# Altium footprint library DC接口  电源的.PcbLib: 7 footprints
Each footprint in its own frame and in the unit in brackets; x right, y up, seen from the top. Pads: shape width x height; smd on the part's side, far side on the other; paste and mask are expansions set on the pad; w line width, h text height; cw(c..) or ccw(c..) is an arc to the next point about the centre after c.
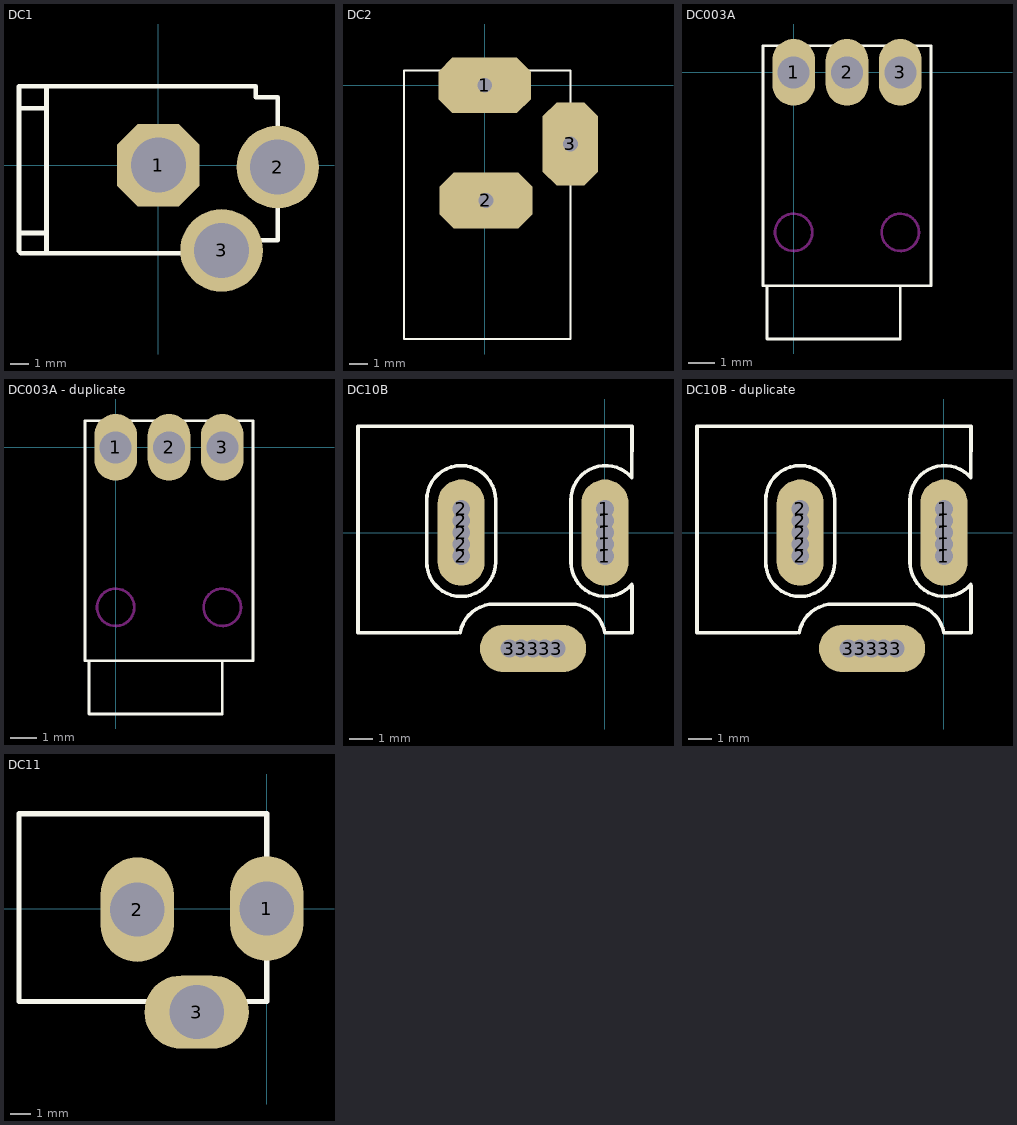
[diagram p0: the footprints below, top view; thin cyan lines are the x and y axes]

## DC1 [mm]
pads (3):
  oct 4.5x4.5 hole 3: 1(0,0)
  round 4.5 hole 3: 2(6.5,-0.1) 3(3.44,-4.648)
Top Overlay:
  lines w0.254: -7.6,-3.7 -6.1,-3.7 ; -7.6,3.1 -6.1,3.1 ; -6.1,-4.8 -6.1,4.3 ; -4.1,-4.8 4.8,-4.8 5.4,-4.8 5.4,-4.1 6.5,-4.1 6.5,3.7 5.3,3.7 5.3,4.3 -3.8,4.3 -7.6,4.3 -7.6,-4.7 -7.5,-4.8 -3.8,-4.8

## DC2 [mm]
pads (3):
  oct 5x3 hole 0.8: 1(0,0) 2(0.07,-6.22)
  oct 3x4.5 hole 0.8: 3(4.63,-3.17)
Top Overlay:
  lines w0.1: -4.36,-13.7 -4.36,0.8 4.64,0.8 4.64,-13.7 -4.36,-13.7
Mechanical 1:
  lines w0.1: -1.36,-0.55 -1.36,0.45 1.64,0.45 1.64,-0.55 -1.36,-0.55 ; -1.16,-6.7 -1.16,-5.7 1.44,-5.7 1.44,-6.7 -1.16,-6.7 ; 4.14,-4.45 4.14,-1.85 5.14,-1.85 5.14,-4.45 4.14,-4.45

## DC003A [mm]
pads (3):
  oval 1.6x2.5 hole 1.2: 1(0,0) 2(2,0) 3(4,0)
Top Overlay:
  lines w0.1: -1,-8 -1,-10 4,-10 4,-8.02 ; -1.15,-8 -1.15,1 5.15,1 5.15,-8 -1.15,-8
Keep-Out Layer:
  circle w0.1: c0,-6 r0.7
  circle w0.1: c4,-6 r0.7

## DC003A - duplicate [mm]
pads (3):
  oval 1.6x2.5 hole 1.2: 1(0,0) 2(2,0) 3(4,0)
Top Overlay:
  lines w0.1: -1,-8 -1,-10 4,-10 4,-8.02 ; -1.15,-8 -1.15,1 5.15,1 5.15,-8 -1.15,-8
Keep-Out Layer:
  circle w0.1: c0,-6 r0.7
  circle w0.1: c4,-6 r0.7

## DC10B [mil]
pads (15):
  round 45 hole 30: 1(0,-40) 1(0,-20) 1(0,20) 1(0,40) 2(-244.09,-40) 2(-244.09,-20) 2(-244.09,20) 2(-244.09,40) 3(-162.05,-196.85) 3(-142.05,-196.85) 3(-102.05,-196.85) 3(-82.05,-196.85)
  oval 80x180 hole 30: 1(0,0) 2(-244.09,0)
  oval 180x80 hole 30: 3(-122.05,-196.85)
Top Overlay:
  lines w6: -250.09,-170 -419.09,-170 -419.09,180 45.91,180 45.74,92.62 ccw(c0.91,55) -57.62,55 -57.62,-50 ccw(c0.91,-50) 45.74,-87.62 ; -245.73,-169.84 cw(c-188.09,-180) -188.09,-121.48 -58.09,-121.48 cw(c-58.09,-180) -0.46,-169.84 ; 0.91,-170 45.91,-170 45.91,-90 ; -185.57,55 ccw(c-244.09,55) -302.62,55 -302.62,-50 ccw(c-244.09,-50) -185.57,-50 -185.57,55 ; -185.57,55 -185.57,55

## DC10B - duplicate [mil]
pads (15):
  round 45 hole 30: 1(0,-40) 1(0,-20) 1(0,20) 1(0,40) 2(-244.09,-40) 2(-244.09,-20) 2(-244.09,20) 2(-244.09,40) 3(-162.05,-196.85) 3(-142.05,-196.85) 3(-102.05,-196.85) 3(-82.05,-196.85)
  oval 80x180 hole 30: 1(0,0) 2(-244.09,0)
  oval 180x80 hole 30: 3(-122.05,-196.85)
Top Overlay:
  lines w6: -250.09,-170 -419.09,-170 -419.09,180 45.91,180 45.74,92.62 ccw(c0.91,55) -57.62,55 -57.62,-50 ccw(c0.91,-50) 45.74,-87.62 ; -245.73,-169.84 cw(c-188.09,-180) -188.09,-121.48 -58.09,-121.48 cw(c-58.09,-180) -0.46,-169.84 ; 0.91,-170 45.91,-170 45.91,-90 ; -185.57,55 ccw(c-244.09,55) -302.62,55 -302.62,-50 ccw(c-244.09,-50) -185.57,-50 -185.57,55 ; -185.57,55 -185.57,55

## DC11 [mil]
pads (3):
  oval 138x197 hole 102: 1(0,0) 2(-244,-2)
  oval 197x138 hole 102: 3(-132,-195)
Top Overlay:
  lines w10: 0,-175 -467,-175 -467,179 0,179 0,-173